# EAGLE library part GRENZSCHALTER_OOOO (library pkess_schalter)
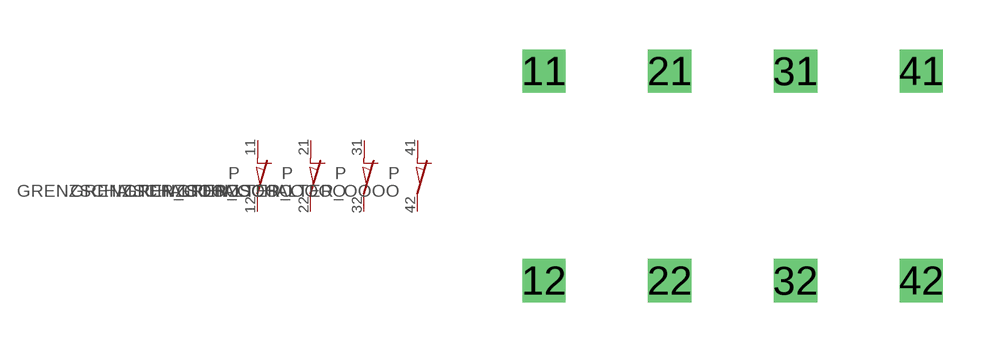
[diagram p1: symbol with the pads of KONTAKTE_OOOO; footprint KONTAKTE_OOOO]

Designator prefix P; gates G$1=GRENZSCHALTER_O G$2=GRENZSCHALTER_O G$3=GRENZSCHALTER_O G$4=GRENZSCHALTER_O

## GRENZSCHALTER_OOOO  [KONTAKTE_OOOO]
11  G$1:1  pas
12  G$1:2  pas
21  G$2:1  pas
22  G$2:2  pas
31  G$3:1  pas
32  G$3:2  pas
41  G$4:1  pas
42  G$4:2  pas

## Footprint KONTAKTE_OOOO (pad centres in mm)
drill 0.8 square: 11 0,0; 12 0,-6.35; 21 3.81,0; 22 3.81,-6.35; 31 7.62,0; 32 7.62,-6.35; 41 11.43,0; 42 11.43,-6.35